# Altium schematic symbol library Power_Protection_Fuses_GOST.SchLib: 4 symbols
Pins are listed as number, name and electrical type; pins without a type are passive.

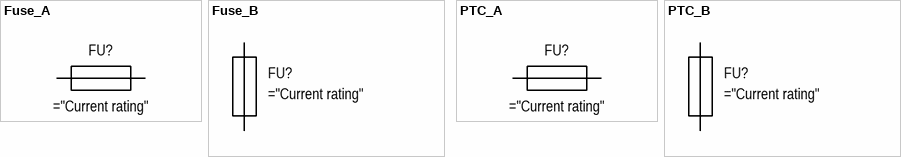
[diagram p0: symbols Fuse_A to PTC_B]

## Fuse_A
designator FU?
pins: 1, 2

## Fuse_B
designator FU?
pins: 1, 2

## PTC_A
designator FU?
pins: 1, 2

## PTC_B
designator FU?
pins: 1, 2